# Altium footprint library ETech PCB Rev 1.0.PcbLib: 102 footprints (part 7 of 7)
Each footprint in its own frame and in the unit in brackets; x right, y up, seen from the top. Pads: shape width x height; smd on the part's side, far side on the other; paste and mask are expansions set on the pad; w line width, h text height; cw(c..) or ccw(c..) is an arc to the next point about the centre after c.
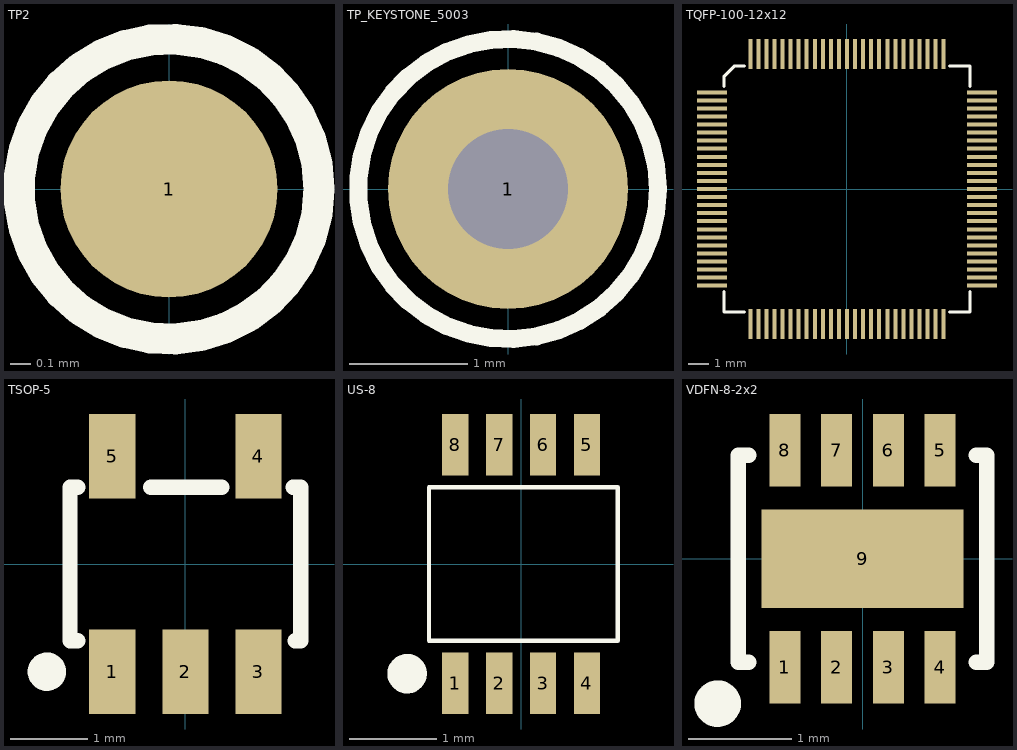
[diagram p6: the footprints below, top view; thin cyan lines are the x and y axes]

## TP2 [mil]
height 751.97
pads (1):
  round 42 smd: 1(0,0)
Top Overlay:
  circle w6: c0,0 r29

## TP_KEYSTONE_5003 [mil]
height 751.97
pads (1):
  round 80 hole 40: 1(0,0)
Top Overlay:
  circle w6: c0,0 r50

## TQFP-100-12x12 [mm]
pads (100):
  rect 1.5x0.2 smd mask+0.065: 1(-6.7,4.8) 2(-6.7,4.4) 3(-6.7,4) 4(-6.7,3.6) 5(-6.7,3.2) 6(-6.7,2.8) 7(-6.7,2.4) 8(-6.7,2) 9(-6.7,1.6) 10(-6.7,1.2) 11(-6.7,0.8) 12(-6.7,0.4) 13(-6.7,0) 14(-6.7,-0.4) 15(-6.7,-0.8) 16(-6.7,-1.2) 17(-6.7,-1.6) 18(-6.7,-2) 19(-6.7,-2.4) 20(-6.7,-2.8) 21(-6.7,-3.2) 22(-6.7,-3.6) 23(-6.7,-4) 24(-6.7,-4.4) 25(-6.7,-4.8) 51(6.7,-4.8) 52(6.7,-4.4) 53(6.7,-4) 54(6.7,-3.6) 55(6.7,-3.2) 56(6.7,-2.8) 57(6.7,-2.4) 58(6.7,-2) 59(6.7,-1.6) 60(6.7,-1.2) 61(6.7,-0.8) 62(6.7,-0.4) 63(6.7,0) 64(6.7,0.4) 65(6.7,0.8) 66(6.7,1.2) 67(6.7,1.6) 68(6.7,2) 69(6.7,2.4) 70(6.7,2.8) 71(6.7,3.2) 72(6.7,3.6) 73(6.7,4) 74(6.7,4.4) 75(6.7,4.8)
  rect 0.2x1.5 smd mask+0.065: 26(-4.8,-6.7) 27(-4.4,-6.7) 28(-4,-6.7) 29(-3.6,-6.7) 30(-3.2,-6.7) 31(-2.8,-6.7) 32(-2.4,-6.7) 33(-2,-6.7) 34(-1.6,-6.7) 35(-1.2,-6.7) 36(-0.8,-6.7) 37(-0.4,-6.7) 38(0,-6.7) 39(0.4,-6.7) 40(0.8,-6.7) 41(1.2,-6.7) 42(1.6,-6.7) 43(2,-6.7) 44(2.4,-6.7) 45(2.8,-6.7) 46(3.2,-6.7) 47(3.6,-6.7) 48(4,-6.7) 49(4.4,-6.7) 50(4.8,-6.7) 76(4.8,6.7) 77(4.4,6.7) 78(4,6.7) 79(3.6,6.7) 80(3.2,6.7) 81(2.8,6.7) 82(2.4,6.7) 83(2,6.7) 84(1.6,6.7) 85(1.2,6.7) 86(0.8,6.7) 87(0.4,6.7) 88(0,6.7) 89(-0.4,6.7) 90(-0.8,6.7) 91(-1.2,6.7) 92(-1.6,6.7) 93(-2,6.7) 94(-2.4,6.7) 95(-2.8,6.7) 96(-3.2,6.7) 97(-3.6,6.7) 98(-4,6.7) 99(-4.4,6.7) 100(-4.8,6.7)
Top Overlay:
  lines w0.152: -6.1,-5.1 -6.1,-6.1 -5.1,-6.1 ; -6.1,5.1 -6.1,5.6 -5.6,6.1 -5.1,6.1 ; 5.1,-6.1 6.1,-6.1 6.1,-5.1 ; 5.1,6.1 6.1,6.1 6.1,5.1

## TSOP-5 [mm] "Small Outline; 6 Leads (1 Absent); Body Width 4.4 mm; Pitch 1.27 mm"
height 2.4
pads (5):
  rect 0.6x1.1 smd: 1(-0.95,-1.4) 2(0,-1.4) 3(0.95,-1.4) 4(0.95,1.4) 5(-0.95,1.4)
Top Overlay:
  circle w0.25: c-1.8,-1.4 r0.125
  lines w0.2: -1.4,-1 -1.5,-1 -1.5,1 -1.4,1 ; -0.45,1 0.475,1 ; 1.4,1 1.5,1 1.5,-1 1.425,-1

## US-8 [mm]
height 2.4
pads (8):
  rect 0.3x0.7 smd mask+0.08: 1(-0.75,-1.36) 2(-0.25,-1.36) 3(0.25,-1.36) 4(0.75,-1.36) 5(0.75,1.36) 6(0.25,1.36) 7(-0.25,1.36) 8(-0.75,1.36)
Top Overlay:
  circle w0.25: c-1.3,-1.25 r0.1
  lines w0.05: 1.1,0.875 -1.05,0.875 -1.05,-0.875 1.1,-0.875 1.1,0.875 ; 1.1,0.875 1.1,0.875

## VDFN-8-2x2 [mm]
height 2.4
pads (9):
  rect 0.3x0.7 smd mask+0.065: 1(-0.75,-1.05) 2(-0.25,-1.05) 3(0.25,-1.05) 4(0.75,-1.05) 5(0.75,1.05) 6(0.25,1.05) 7(-0.25,1.05) 8(-0.75,1.05)
  rect 1.95x0.95 smd mask+0.065: 9(0,0)
Top Overlay:
  circle w0.25: c-1.4,-1.4 r0.1
  lines w0.15: -1.1,-1 -1.2,-1 -1.2,1 -1.1,1 ; 1.1,-1 1.2,-1 1.2,1 1.1,1